# EAGLE library part SSM2212RZ (library mmoretti)
NPN Transistor
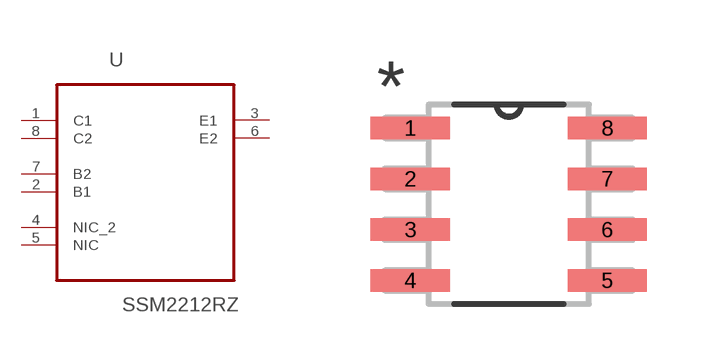
[diagram p0: symbol with the pads of SOIC127P600X175-8N; footprint SOIC127P600X175-8N]

Designator prefix U

## SSM2212RZ (MPN: SSM2212RZ; OC_FARNELL: -; OC_NEWARK: 84R0591; PACKAGE: SOIC-8; SUPPLIER: ANALOG DEVICES)  [SOIC127P600X175-8N]
1  C1  in
2  B1  in
3  E1  out
4  NIC_2  nc
5  NIC  nc
6  E2  out
7  B2  in
8  C2  in

## Footprint SOIC127P600X175-8N (pad centres in mm)
smd 1.981 x 0.559: 1 -2.464,1.905; 2 -2.464,0.635; 3 -2.464,-0.635; 4 -2.464,-1.905; 5 2.464,-1.905; 6 2.464,-0.635; 7 2.464,0.635; 8 2.464,1.905